# Altium footprint library Flex_R_2512(6432).PcbLib: 1 footprints
Each footprint in its own frame and in the unit in brackets; x right, y up, seen from the top. Pads: shape width x height; smd on the part's side, far side on the other; paste and mask are expansions set on the pad; w line width, h text height; cw(c..) or ccw(c..) is an arc to the next point about the centre after c.
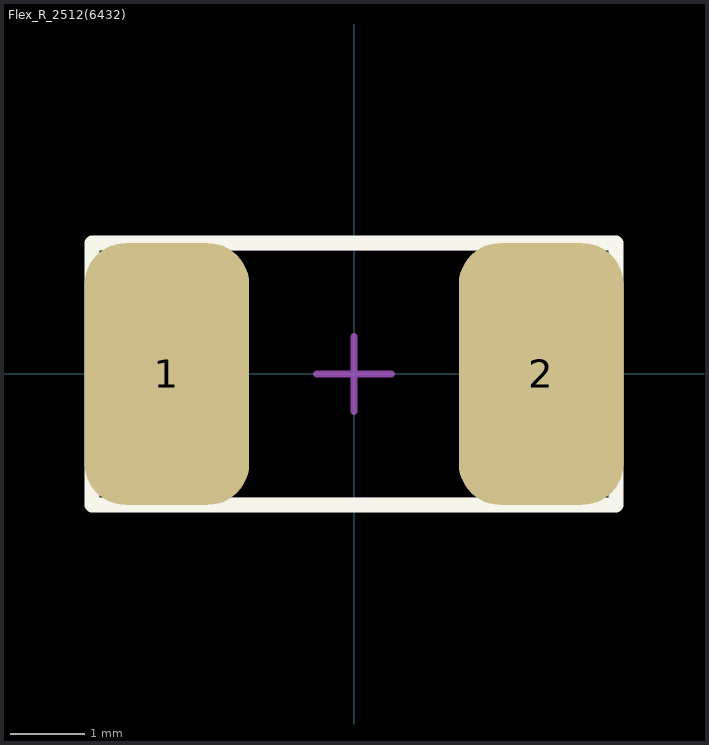
[diagram p0: the footprint, top view; thin cyan lines are the x and y axes]

## Flex_R_2512(6432) [mm] "Chip Resistor, Body 6.4x3.2mm, Flex"
height 1.2
pads (2):
  rrect50% 2.2x3.5 smd paste-0.2 mask-0.1: 1(-2.5,0) 2(2.5,0)
Top Overlay:
  lines w0.2: -3.5,-1.75 -3.5,1.75 3.5,1.75 3.5,-1.75 -3.5,-1.75
Mechanical 13:
  lines w0.1: -3.3,-1.7 -3.3,1.7 3.3,1.7 3.3,-1.7 -3.3,-1.7
Mechanical 15:
  lines w0.1: -0.5,0 0.5,0 ; 0,-0.5 0,0.5 ; -3.5,-1.75 -3.5,1.75 3.5,1.75 3.5,-1.75 -3.5,-1.75
3D body: height 1.2, standoff 0, extent -3.3,-1.7 3.3,1.7